# Altium footprint library BLE.PcbLib: 57 footprints (part 2 of 4)
Each footprint in its own frame and in the unit in brackets; x right, y up, seen from the top. Pads: shape width x height; smd on the part's side, far side on the other; paste and mask are expansions set on the pad; w line width, h text height; cw(c..) or ccw(c..) is an arc to the next point about the centre after c.
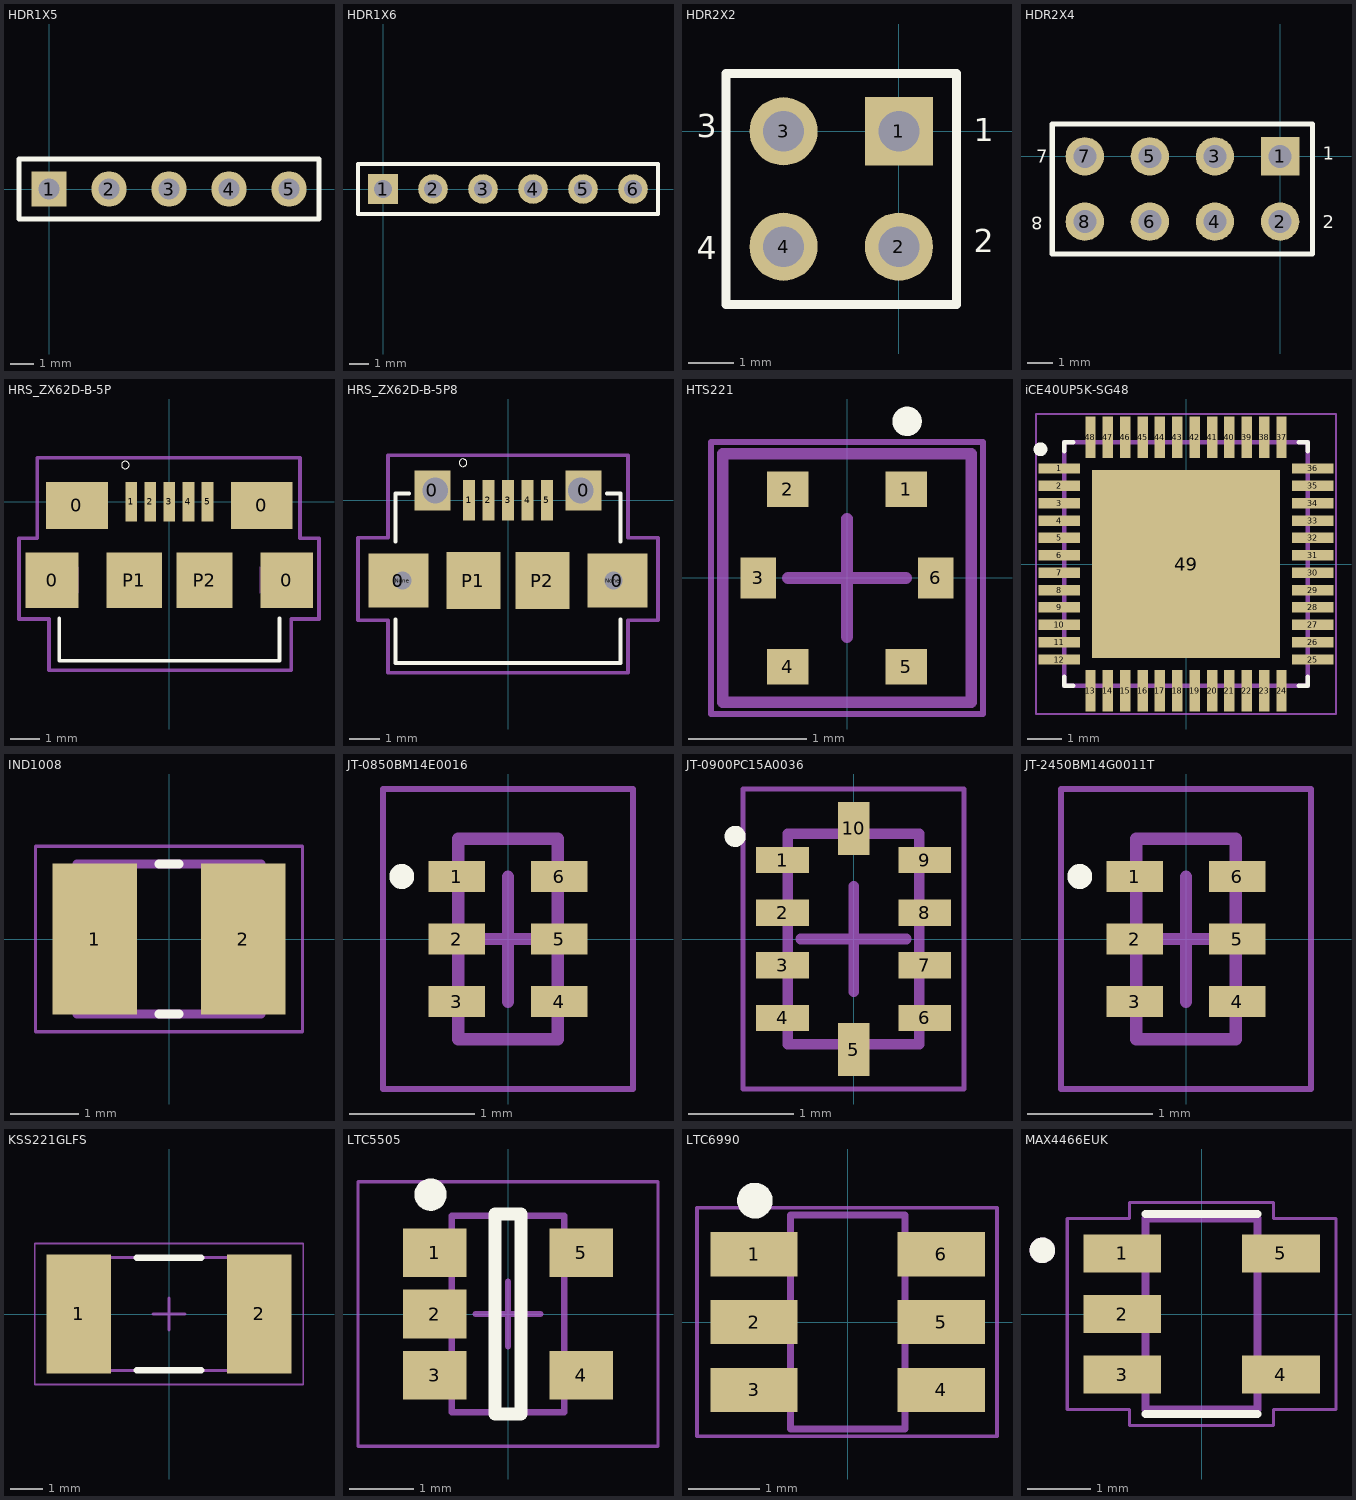
[diagram p1: the footprints below, top view; thin cyan lines are the x and y axes]

## HDR1X5 [mm] "Connector; Header; 5 Position"
pads (5):
  rect 1.5x1.5 hole 0.9: 1(0,0)
  round 1.5 hole 0.9: 2(2.54,0) 3(5.08,0) 4(7.62,0) 5(10.16,0)
Top Overlay:
  lines w0.2: -1.27,-1.27 -1.27,1.27 11.43,1.27 11.43,-1.27 -1.27,-1.27

## HDR1X6 [mm] "Connector; Header; 6 Position"
pads (6):
  rect 1.5x1.5 hole 0.9: 1(0,0)
  round 1.5 hole 0.9: 2(2.54,0) 3(5.08,0) 4(7.62,0) 5(10.16,0) 6(12.7,0)
Top Overlay:
  lines w0.2: -1.27,-1.27 -1.27,1.27 13.97,1.27 13.97,-1.27 -1.27,-1.27

## HDR2X2 [mm] "Connector; Header; 2x2 Position"
pads (4):
  rect 1.5x1.5 hole 0.9: 1(0,0)
  round 1.5 hole 0.9: 2(0,-2.54) 3(-2.54,0) 4(-2.54,-2.54)
Top Overlay:
  lines w0.2: -3.81,-3.81 1.27,-3.81 1.27,1.27 -3.81,1.27 -3.81,-3.81
  text "1" at 1.651,-0.218 h0.51
  text "2" at 1.651,-2.667 h0.51
  text "4" at -4.445,-2.82 h0.51
  text "3" at -4.445,-0.127 h0.51

## HDR2X4 [mm] "Connector; Header; 4x2 Position"
pads (8):
  rect 1.5x1.5 hole 0.9: 1(0,0)
  round 1.5 hole 0.9: 2(0,-2.54) 3(-2.54,0) 4(-2.54,-2.54) 5(-5.08,0) 6(-5.08,-2.54) 7(-7.62,0) 8(-7.62,-2.54)
Top Overlay:
  lines w0.2: -8.89,-3.81 -8.89,1.27 1.27,1.27 1.27,-3.81 -8.89,-3.81
  text "8" at -9.271,-2.362 h0.51
  text "7" at -9.525,-0.254 h0.51
  text "1" at 1.676,-0.127 h0.51
  text "2" at 1.676,-2.802 h0.51

## HRS_ZX62D-B-5P [mm]
pads (11):
  rect 1.8x1.9 smd: 0(-4,-2.675) 0(4,-2.675)
  rect 2.1x1.6 smd: 0(-3.15,-0.125) 0(3.15,-0.125)
  rect 0.4x1.35 smd: 1(-1.3,0) 2(-0.65,0) 3(0,0) 4(0.65,0) 5(1.3,0)
  rect 1.9x1.9 smd: P1(-1.2,-2.675) P2(1.2,-2.675)
Top Overlay:
  circle w0: c-1.5,1.25 r0.127
  lines w0.127: -3.75,-3.975 -3.75,-5.425 3.75,-5.425 3.75,-3.975
Mechanical 13:
  lines w0.01: -3.925,-3.125 -3.925,-2.225 ; -3.625,-3.425 -3.4,-3.425 ; -3.625,-1.925 -3.4,-1.925 ; -3.1,-3.125 -3.1,-2.225 ; 3.1,-3.125 3.1,-2.225 ; 3.4,-3.425 3.625,-3.425 ; 3.4,-1.925 3.625,-1.925 ; 3.925,-3.125 3.925,-2.225
  lines w0.127: -5.125,-4 -4.1,-4 -4.1,-5.75 4.15,-5.75 4.15,-4 5.1,-4 5.1,-1.25 4.45,-1.25 4.45,1.5 -4.5,1.5 -4.5,-1.25 -5.125,-1.25 -5.125,-4
3D body "ZX62-B-5PA.stp": height 2.48, standoff -0.47, extent -4.012,-5.155 4.062,0.445

## HRS_ZX62D-B-5P8 [mm]
pads (13):
  rect 2x1.8 smd: 0(-3.65,-2.675) 0(3.65,-2.675)
  rect 1.2x1.35 smd: 0(-2.525,0.325) 0(2.525,0.325)
  rect 0.4x1.35 smd: 1(-1.3,0) 2(-0.65,0) 3(0,0) 4(0.65,0) 5(1.3,0)
  round 0.6 hole 0.6 unplated: None(-3.512,-2.675) None(3.512,-2.675)
  rect 1.8x1.9 smd: P1(-1.15,-2.675) P2(1.15,-2.675)
via 2.425,0.325 diameter 1 hole 0.85
via -2.425,0.325 diameter 1 hole 0.85
Top Overlay:
  circle w0: c-1.5,1.25 r0.127
  lines w0.127: -3.75,-3.975 -3.75,-5.425 3.75,-5.425 3.75,-3.975 ; -3.75,-1.375 -3.75,0.225 -3.3,0.225 ; 3.3,0.225 3.75,0.225 3.75,-1.375
Mechanical 13:
  lines w0.01: -3.925,-3.125 -3.925,-2.225 ; -3.625,-3.425 -3.4,-3.425 ; -3.625,-1.925 -3.4,-1.925 ; -3.1,-3.125 -3.1,-2.225 ; 3.1,-3.125 3.1,-2.225 ; 3.4,-3.425 3.625,-3.425 ; 3.4,-1.925 3.625,-1.925 ; 3.925,-3.125 3.925,-2.225
  lines w0.127: -5,-4 -5,-1.25 -4,-1.25 -4,1.5 4,1.5 4,-1.25 5,-1.25 5,-4 4,-4 4,-5.75 -4,-5.75 -4,-4 -5,-4
3D body "ZX62D-B-5P8.stp": height 2.45, standoff -1.05, extent -3.997,-5.075 4.097,0.725

## HTS221 [mm]
pads (6):
  rect 0.35x0.3 smd: 1(0.5,0.75) 2(-0.5,0.75) 4(-0.5,-0.75) 5(0.5,-0.75)
  rect 0.3x0.35 smd: 3(-0.75,0) 6(0.75,0)
Top Overlay:
  circle w0.125: c0.508,1.324 r0.062
Mechanical 13:
  lines w0.1: -1.05,-1.05 -1.05,1.05 1.05,1.05 1.05,-1.05 -1.05,-1.05
Mechanical 15:
  lines w0.05: -1.15,-1.15 -1.15,1.15 1.15,1.15 1.15,-1.15 -1.15,-1.15
  lines w0.1: -0.5,0 0.5,0 ; 0,-0.5 0,0.5
3D body: height 1, standoff 0, extent -1.05,-1.05 1.05,1.05

## iCE40UP5K-SG48 [mm]
pads (49):
  rect 1.2x0.3 smd mask+0.07: 1(-3.65,2.75) 2(-3.65,2.25) 3(-3.65,1.75) 4(-3.65,1.25) 5(-3.65,0.75) 6(-3.65,0.25) 7(-3.65,-0.25) 8(-3.65,-0.75) 9(-3.65,-1.25) 10(-3.65,-1.75) 11(-3.65,-2.25) 12(-3.65,-2.75) 25(3.65,-2.75) 26(3.65,-2.25) 27(3.65,-1.75) 28(3.65,-1.25) 29(3.65,-0.75) 30(3.65,-0.25) 31(3.65,0.25) 32(3.65,0.75) 33(3.65,1.25) 34(3.65,1.75) 35(3.65,2.25) 36(3.65,2.75)
  rect 0.3x1.2 smd mask+0.07: 13(-2.75,-3.65) 14(-2.25,-3.65) 15(-1.75,-3.65) 16(-1.25,-3.65) 17(-0.75,-3.65) 18(-0.25,-3.65) 19(0.25,-3.65) 20(0.75,-3.65) 21(1.25,-3.65) 22(1.75,-3.65) 23(2.25,-3.65) 24(2.75,-3.65) 37(2.75,3.65) 38(2.25,3.65) 39(1.75,3.65) 40(1.25,3.65) 41(0.75,3.65) 42(0.25,3.65) 43(-0.25,3.65) 44(-0.75,3.65) 45(-1.25,3.65) 46(-1.75,3.65) 47(-2.25,3.65) 48(-2.75,3.65)
  rect 5.4x5.4 smd: 49(0,0)
Top Overlay:
  circle w0.2: c-4.191,3.302 r0.1
  lines w0.127: -3.5,-3.25 -3.5,-3.5 -3.25,-3.5 ; -3.5,3.25 -3.5,3.5 -3.25,3.5 ; 3.25,-3.5 3.5,-3.5 3.5,-3.25 ; 3.25,3.5 3.5,3.5 3.5,3.25
Top Paste:
  region: -1.703,1.7 1.7,1.7 1.7,-1.703 -1.703,-1.703
Mechanical 13:
  lines w0.127: -3.5,-3.5 -3.5,3.5 ; -3.5,-3.5 3.5,-3.5 ; -3.5,-3.5 -3.5,3.5 ; -3.5,-3.5 3.5,-3.5 ; -3.5,3.5 3.5,3.5 ; -3.5,3.5 3.5,3.5 ; 3.5,-3.5 3.5,3.5 ; 3.5,-3.5 3.5,3.5
Mechanical 15:
  lines w0.05: -4.318,-4.318 -4.318,4.318 4.318,4.318 4.318,-4.318 -4.318,-4.318
3D body: height 1.1, standoff 0, extent -3.5,-3.5 3.5,3.5

## IND1008 [mm]
height 2.5
pads (2):
  rect 1.24x2.22 smd: 1(-1.09,0) 2(1.09,0)
Top Overlay:
  lines w0.127: -0.15,-1.1 0.15,-1.1 ; -0.15,1.1 0.15,1.1
Mechanical 13:
  lines w0.127: -1.35,-1.1 -1.35,1.1 ; -1.35,-1.1 1.35,-1.1 ; -1.35,-1.1 -1.35,1.1 ; -1.35,-1.1 1.35,-1.1 ; -1.35,1.1 1.35,1.1 ; -1.35,1.1 1.35,1.1 ; 1.35,-1.1 1.35,1.1 ; 1.35,-1.1 1.35,1.1
Mechanical 15:
  lines w0.05: -1.958,-1.358 -1.958,1.358 1.958,1.358 1.958,-1.358 -1.958,-1.358

## JT-0850BM14E0016 [mm] "Chip Array, 6-Leads, Body 1.6x0.8mm, Pitch 0.5mm"
height 0.6
pads (6):
  rect 0.45x0.25 smd mask+0.075: 1(-0.41,0.5) 2(-0.41,0) 3(-0.41,-0.5) 4(0.41,-0.5) 5(0.41,0) 6(0.41,0.5)
Top Overlay:
  circle w0.1: c-0.85,0.5 r0.05
Mechanical 13:
  lines w0.1: -0.4,-0.8 0.4,-0.8 0.4,0.8 -0.4,0.8 -0.4,-0.8
Mechanical 15:
  lines w0.05: -1,-1.2 -1,1.2 1,1.2 1,-1.2 -1,-1.2
  lines w0.1: -0.5,0 0.5,0 ; 0,-0.5 0,0.5
3D body: height 0.6, standoff 0, extent -0.4,-0.8 0.4,0.8

## JT-0900PC15A0036 [mm] "Chip Array, 6-Leads, Body 1.6x0.8mm, Pitch 0.5mm"
height 0.6
pads (10):
  rect 0.5x0.25 smd: 1(-0.675,0.75) 2(-0.675,0.25) 3(-0.675,-0.25) 4(-0.675,-0.75) 6(0.675,-0.75) 7(0.675,-0.25) 8(0.675,0.25) 9(0.675,0.75)
  rect 0.3x0.5 smd: 5(0,-1.05) 10(0,1.05)
Top Overlay:
  circle w0.1: c-1.125,0.975 r0.05
Mechanical 13:
  lines w0.1: -0.625,-1 -0.625,1 0.625,1 0.625,-1 -0.625,-1
Mechanical 15:
  lines w0.05: -1.05,-1.425 1.05,-1.425 1.05,1.425 -1.05,1.425 -1.05,-1.425
  lines w0.1: -0.5,0 0.5,0 ; 0,-0.5 0,0.5
3D body: height 0.6, standoff 0, extent -0.625,-1 0.625,1

## JT-2450BM14G0011T [mm] "Chip Array, 6-Leads, Body 1.6x0.8mm, Pitch 0.5mm"
height 0.6
pads (6):
  rect 0.45x0.25 smd: 1(-0.41,0.5) 2(-0.41,0) 3(-0.41,-0.5) 4(0.41,-0.5) 5(0.41,0) 6(0.41,0.5)
Top Overlay:
  circle w0.1: c-0.85,0.5 r0.05
Mechanical 13:
  lines w0.1: -0.4,-0.8 -0.4,0.8 0.4,0.8 0.4,-0.8 -0.4,-0.8
Mechanical 15:
  lines w0.05: -1,-1.2 1,-1.2 1,1.2 -1,1.2 -1,-1.2
  lines w0.1: -0.5,0 0.5,0 ; 0,-0.5 0,0.5
3D body: height 0.6, standoff 0, extent -0.4,-0.8 0.4,0.8

## KSS221GLFS [mm] "Subminiature Side Actuated Tact Switch for SMT"
height 1.1
pads (2):
  rect 2x3.7 smd: 1(-2.8,0) 2(2.8,0)
Top Overlay:
  lines w0.2: -1,-1.75 1,-1.75 ; -1,1.75 1,1.75
Mechanical 13:
  lines w0.1: -2.75,-1.75 2.75,-1.75 2.75,1.75 -2.75,1.75 -2.75,-1.75
Mechanical 15:
  lines w0.05: -4.166,-2.184 4.166,-2.184 4.166,2.184 -4.166,2.184 -4.166,-2.184
  lines w0.1: -0.5,0 0.5,0 ; 0,-0.5 0,0.5
3D body: height 1, standoff 0, extent -1.2,-0.9 1.2,0.9
3D body: height 1.65, standoff 0, extent -2.75,-1.75 2.75,1.75
3D body: height 1.65, standoff 0.65, extent -1.25,-2.705 1.25,-1.714

## LTC5505 [mm] "SOT23, 5-Leads, Body 2.9x1.6mm, Pitch 0.95mm, IPC Low Density"
height 1.1
pads (5):
  rect 0.981x0.754 smd: 1(-1.136,0.95) 2(-1.136,0) 3(-1.136,-0.95) 4(1.136,-0.95) 5(1.136,0.95)
Top Overlay:
  circle w0.25: c-1.2,1.85 r0.125
  lines w0.2: -0.2,-1.55 -0.2,1.55 0.2,1.55 0.2,-1.55 -0.2,-1.55
Mechanical 13:
  lines w0.1: -0.875,-1.525 0.875,-1.525 0.875,1.525 -0.875,1.525 -0.875,-1.525
Mechanical 15:
  lines w0.05: -2.325,-2.05 2.325,-2.05 2.325,2.05 -2.325,2.05 -2.325,-2.05
  lines w0.1: -0.5,0 0.5,0 ; 0,-0.5 0,0.5
3D body: height 1.1, standoff 0, extent -0.875,-1.525 0.875,1.525

## LTC6990 [mm]
pads (6):
  rect 1.22x0.62 smd: 1(-1.31,0.95) 2(-1.31,0) 3(-1.31,-0.95) 4(1.31,-0.95) 5(1.31,0) 6(1.31,0.95)
Top Overlay:
  circle w0.25: c-1.3,1.7 r0.125
Mechanical 13:
  lines w0.1: -0.8,-1.5 0.8,-1.5 0.8,1.5 -0.8,1.5 -0.8,-1.5
Mechanical 15:
  lines w0.05: -2.11,-1.6 2.09,-1.6 2.09,1.6 -2.11,1.6 -2.11,-1.6
3D body: height 1.1, standoff 0, extent -0.8,-1.5 0.8,1.5

## MAX4466EUK [mm]
pads (5):
  rect 1.22x0.6 smd: 1(-1.245,0.95) 2(-1.245,0) 3(-1.245,-0.95) 4(1.245,-0.95) 5(1.245,0.95)
Top Overlay:
  circle w0.2: c-2.5,1 r0.1
  lines w0.127: -0.88,-1.57 0.88,-1.57 ; -0.88,1.57 0.88,1.57
Mechanical 13:
  circle w0.2: c-2.5,1 r0.1
  circle w0.2: c-2.5,1 r0.1
  lines w0.127: -0.88,-1.5 -0.88,1.5 ; -0.88,-1.5 0.88,-1.5 ; -0.88,-1.5 -0.88,1.5 ; -0.88,-1.5 0.88,-1.5 ; -0.88,1.5 0.88,1.5 ; -0.88,1.5 0.88,1.5 ; 0.88,-1.5 0.88,1.5 ; 0.88,-1.5 0.88,1.5
Mechanical 15:
  lines w0.05: -2.11,-1.5 -1.13,-1.5 -1.13,-1.75 1.13,-1.75 1.13,-1.5 2.11,-1.5 2.11,1.5 1.13,1.5 1.13,1.75 -1.13,1.75 -1.13,1.5 -2.11,1.5 -2.11,-1.5